# Altium schematic symbol library Sch_Panasonic.SchLib: 1 symbol
Pins are listed as number, name and electrical type; pins without a type are passive.

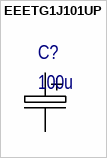
[diagram p0: symbol EEETG1J101UP]

## EEETG1J101UP
designator C?, comment 100u
Aluminium Electrolytic Capacitor, 100 uF ± 20 %, 63 V, size type G; Manufacturer: Panasonic; Part Number: EEETG1J101UP; Capacitance: 100 uF; Tolerance: ± 20 %; Voltage: 63 V; Value on scheme: 100u
footprint ALUM1010 (Aluminium Capacitor 1010)
pins: 1, 2